# EAGLE library part LT1944 (library vekker)
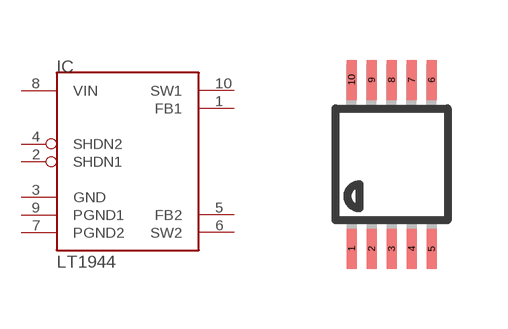
[diagram p9: symbol with the pads of MSOP10; footprint MSOP10]

Designator prefix IC

## LT1944  [MSOP10]
1  FB1
2  SHDN1
3  GND
4  SHDN2
5  FB2
6  SW2
7  PGND2
8  VIN
9  PGND1
10  SW1

## Footprint MSOP10 (pad centres in mm)
smd 0.25 x 1: 1 -1,-2.113; 2 -0.5,-2.113; 3 0,-2.113; 4 0.5,-2.113; 5 1,-2.113; 6 1,2.113; 7 0.5,2.113; 8 0,2.113; 9 -0.5,2.113; 10 -1,2.113